# EAGLE library part PDIP14_PROTO_BLOCK (library edebill)
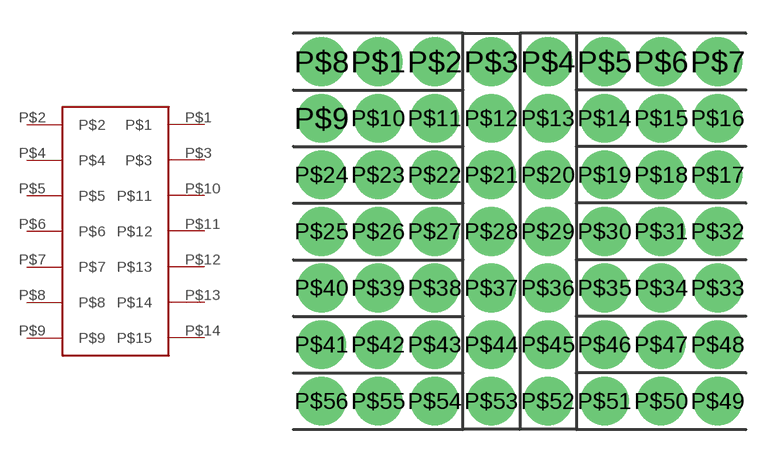
[diagram p1: symbol with the pads of PDIP14_PROTO_BLOCK; footprint PDIP14_PROTO_BLOCK]

Designator prefix -

## PDIP14_PROTO_BLOCK  [PDIP14_PROTO_BLOCK]
P$1  P$1
P$2  P$2
P$3  P$3
P$4  P$4
P$5  P$5
P$6  P$6
P$7  P$7
P$8  P$8
P$9  P$9
P$10  P$11
P$11  P$12
P$12  P$13
P$13  P$14
P$14  P$15

## Footprint PDIP14_PROTO_BLOCK (pad centres in mm)
drill 0.8 pad 2.184 round: P$1 -6.35,7.62; P$2 -3.81,7.62; P$3 -1.27,7.62; P$4 1.27,7.62; P$5 3.81,7.62; P$6 6.35,7.62; P$7 8.89,7.62; P$8 -8.89,7.62; P$9 -8.89,5.08; P$10 -6.35,5.08; P$11 -3.81,5.08; P$12 -1.27,5.08; P$13 1.27,5.08; P$14 3.81,5.08; P$15 6.35,5.08; P$16 8.89,5.08; P$17 8.89,2.54; P$18 6.35,2.54; P$19 3.81,2.54; P$20 1.27,2.54; P$21 -1.27,2.54; P$22 -3.81,2.54; P$23 -6.35,2.54; P$24 -8.89,2.54; P$25 -8.89,0; P$26 -6.35,0; P$27 -3.81,0; P$28 -1.27,0; P$29 1.27,0; P$30 3.81,0; P$31 6.35,0; P$32 8.89,0; P$33 8.89,-2.54; P$34 6.35,-2.54; P$35 3.81,-2.54; P$36 1.27,-2.54; P$37 -1.27,-2.54; P$38 -3.81,-2.54; P$39 -6.35,-2.54; P$40 -8.89,-2.54; P$41 -8.89,-5.08; P$42 -6.35,-5.08; P$43 -3.81,-5.08; P$44 -1.27,-5.08; P$45 1.27,-5.08; P$46 3.81,-5.08; P$47 6.35,-5.08; P$48 8.89,-5.08; P$49 8.89,-7.62; P$50 6.35,-7.62; P$51 3.81,-7.62; P$52 1.27,-7.62; P$53 -1.27,-7.62; P$54 -3.81,-7.62; P$55 -6.35,-7.62; P$56 -8.89,-7.62